# Altium footprint library BasicLib.PcbLib: 24 footprints (part 1 of 2)
Each footprint in its own frame and in the unit in brackets; x right, y up, seen from the top. Pads: shape width x height; smd on the part's side, far side on the other; paste and mask are expansions set on the pad; w line width, h text height; cw(c..) or ccw(c..) is an arc to the next point about the centre after c.
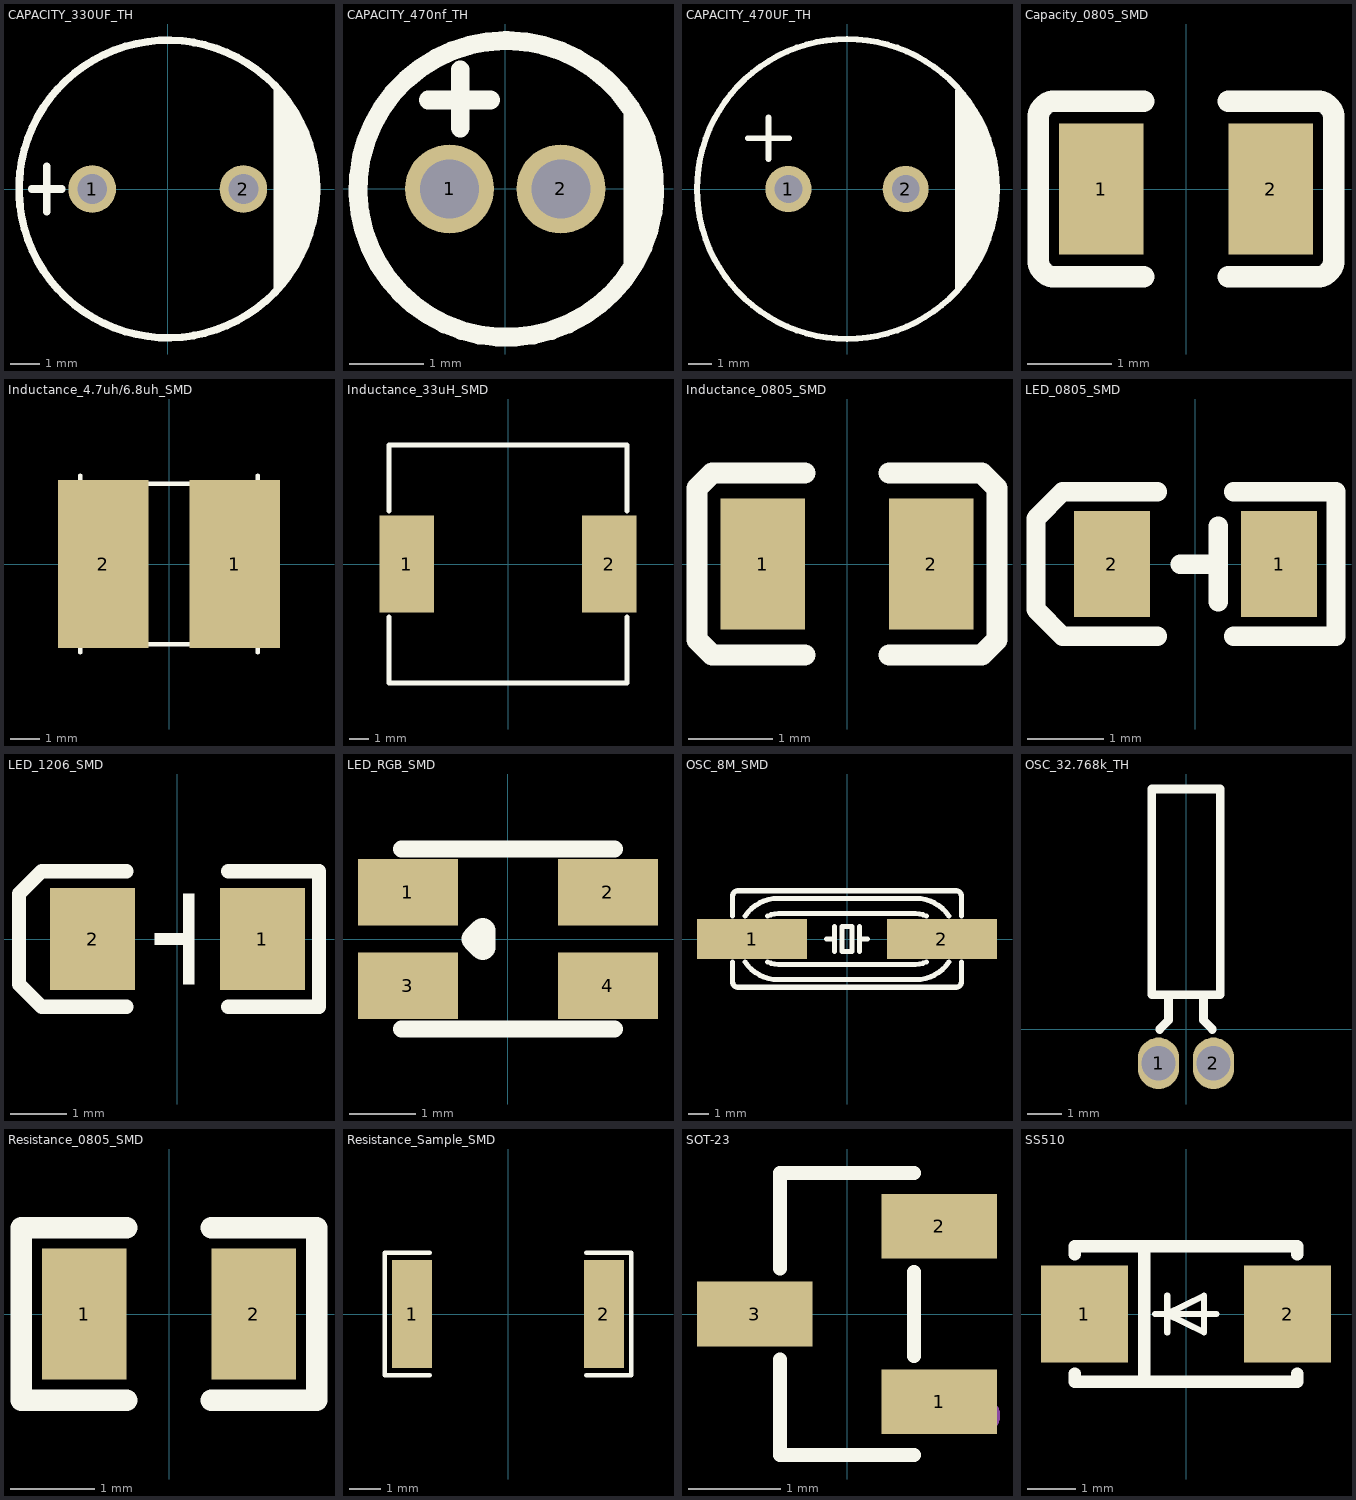
[diagram p0: the footprints below, top view; thin cyan lines are the x and y axes]

## CAPACITY_330UF_TH [mm]
pads (2):
  round 1.6 hole 1: 1(-2.54,0) 2(2.54,0)
Top Overlay:
  circle w0.254: c0,0 r4.999
  region: 3.556,3.556 3.556,-3.556 4.318,-2.54 4.826,-1.016 5.08,0.508 4.826,1.524
  lines w0.254: -4.572,0 -3.556,0 ; -4.064,-0.762 -4.064,0.762

## CAPACITY_470nf_TH [mm]
pads (2):
  round 1.2 hole 0.8: 1(-0.751,0) 2(0.751,0)
Top Overlay:
  region: 1.6,-1.2 1.71,-1.077 1.882,-0.796 1.999,-0.489 2.059,-0.165 2.059,0.165 1.999,0.489 1.882,0.796 1.71,1.077 1.6,1.2
  lines w0.254: -1.038,1.2 -0.2,1.2 ; -0.606,0.819 -0.606,1.606 ; -0.001,1.999 ccw(c0.015,-0.001) 0.032,1.999

## CAPACITY_470UF_TH [mm]
pads (2):
  round 2 hole 1.2: 1(-2.54,0) 2(2.54,0)
Top Overlay:
  circle w0.254: c-0.001,0 r6.5
  region: 4.7,4.3 4.7,-4.5 5.8,-3 6.3,-1.7 6.4,-0.5 6.3,1.5 5.7,3.2
  lines w0.254: -4.301,2.2 -2.501,2.2 ; -3.401,1.3 -3.401,3.1

## Capacity_0805_SMD [mm]
pads (2):
  rect 1x1.55 smd: 1(-1,0) 2(1,0)
Top Overlay:
  lines w0.254: -1.75,0.82 -1.75,0.8 ; -0.5,-1.04 -1.55,-1.04 cw(c-1.55,-0.84) -1.75,-0.84 -1.75,-0.8 -1.75,0.8 ; -0.5,1.04 -1.55,1.04 ccw(c-1.55,0.84) -1.75,0.84 -1.75,0.8 ; 0.5,-1.04 1.55,-1.04 ccw(c1.55,-0.84) 1.75,-0.84 1.75,-0.8 1.75,0.8 1.75,0.84 ccw(c1.55,0.84) 1.55,1.04 0.5,1.04

## Inductance_4.7uh/6.8uh_SMD [mm]
pads (2):
  rect 3.124x5.82 smd: 1(2.278,0) 2(-2.278,0)
Top Overlay:
  lines w0.152: -3.076,-3.062 -3.076,-2.776 3.076,-2.776 3.076,-3.062 ; -3.076,3.062 -3.076,2.776 3.076,2.776 3.076,3.062

## Inductance_33uH_SMD [mm]
pads (2):
  rect 2.8x5 smd: 1(-5.2,0) 2(5.2,0)
Top Overlay:
  lines w0.254: -6.1,-2.731 -6.1,-6.1 6.1,-6.1 6.1,-2.731 ; -6.1,2.731 -6.1,6.1 6.1,6.1 ; 6.1,2.731 6.1,6.096

## Inductance_0805_SMD [mm]
pads (2):
  rect 1x1.55 smd: 1(-1,0) 2(1,0)
Top Overlay:
  lines w0.254: -0.5,-1.08 -1.55,-1.08 -1.6,-1.08 -1.78,-0.9 -1.78,0.9 -1.6,1.08 -1.55,1.08 -0.5,1.08 ; 0.5,-1.08 1.55,-1.08 1.6,-1.08 1.78,-0.9 1.78,0.9 1.6,1.08 1.55,1.08 0.5,1.08

## LED_0805_SMD [mm]
pads (2):
  rect 1x1.4 smd: 1(1.1,0) 2(-1.1,0)
Top Overlay:
  lines w0.254: -0.5,-0.95 -1.75,-0.95 ; -0.5,0.95 -1.75,0.95 ; -0.2,-0.005 0.3,-0.005 ; 0.3,-0.5 0.3,0.5 ; 0.5,-0.95 1.85,-0.95 1.85,0.95 0.5,0.95 ; -1.75,-0.95 -2.1,-0.6 -2.1,0.6 -1.75,0.95 ; -1.75,-0.95 -1.75,-0.95 ; -1.75,0.95 -1.75,0.95

## LED_1206_SMD [mm]
pads (2):
  rect 1.5x1.8 smd: 1(1.5,0) 2(-1.5,0)
Top Overlay:
  region: 0.1,0.8 0.1,-0.8 0.3,-0.8 0.3,0.8
  region: -0.4,0 -0.4,0.1 0.2,0.1 0.2,-0.1 -0.4,-0.1
  lines w0.254: -0.9,-1.2 -2.4,-1.2 -2.8,-0.8 -2.8,-0.7 -2.8,0.7 -2.8,0.8 -2.4,1.2 -0.9,1.2 ; 0.9,-1.2 2.5,-1.2 2.5,1.2 0.9,1.2

## LED_RGB_SMD [mm]
pads (4):
  rect 1.5x1 smd: 1(-1.5,0.7) 2(1.5,0.7) 3(-1.5,-0.7) 4(1.5,-0.7)
Top Overlay:
  lines w0.254: -1.6,-1.35 1.6,-1.35 ; -1.6,1.35 1.6,1.35
  lines w0.381: -0.508,0 -0.381,0.127 -0.381,-0.127 -0.508,0

## OSC_8M_SMD [mm]
pads (2):
  rect 5.5x2 smd: 1(-4.75,0) 2(4.75,0)
Top Overlay:
  lines w0.254: -5.715,-1.143 -5.715,-2.159 ccw(c-5.461,-2.159) -5.461,-2.413 5.461,-2.413 ccw(c5.461,-2.159) 5.715,-2.159 5.715,-1.143 ; -5.715,1.143 -5.715,2.159 cw(c-5.461,2.159) -5.461,2.413 5.461,2.413 cw(c5.461,2.159) 5.715,2.159 5.715,1.143 ; -5.109,-1.143 ccw(c-3.429,0) -3.429,-2.032 3.429,-2.032 ccw(c3.429,0) 5.109,-1.143 ; -5.109,1.143 cw(c-3.429,0) -3.429,2.032 3.429,2.032 cw(c3.429,0) 5.109,1.143 ; -3.983,-1.143 ccw(c-3.429,0) -3.429,-1.27 3.429,-1.27 ccw(c3.429,0) 3.983,-1.143 ; -3.983,1.143 cw(c-3.429,0) -3.429,1.27 3.429,1.27 cw(c3.429,0) 3.983,1.143 ; -1.016,0 -0.635,0 ; -0.635,-0.635 -0.635,0 ; -0.635,0.635 -0.635,0 ; 0.635,-0.635 0.635,0 ; 0.635,0.635 0.635,0 ; 1.016,0 0.635,0 ; -0.254,-0.635 -0.254,0.635 0.254,0.635 0.254,-0.635 -0.254,-0.635

## OSC_32.768k_TH [mm]
pads (2):
  oval 1.2x1.5 hole 1: 1(-0.8,-1) 2(0.8,-1)
Top Overlay:
  lines w0.254: -0.762,-0.02 -0.762,0 -0.508,0.254 -0.508,0.381 -0.508,0.889 ; 0.508,0.889 0.508,0.381 0.508,0.254 0.762,0 0.762,-0.02 ; -1,1 -1,7 1,7 1,1 -1,1

## Resistance_0805_SMD [mm]
pads (2):
  rect 1x1.55 smd: 1(-1,0) 2(1,0)
Top Overlay:
  lines w0.254: -0.5,-1.02 -1.75,-1.02 -1.75,1.02 -0.5,1.02 ; 0.5,-1.02 1.75,-1.02 1.75,1.02 0.5,1.02

## Resistance_Sample_SMD [mm]
pads (2):
  rect 1.283x3.456 smd: 1(-3.066,0) 2(3.066,0)
Top Overlay:
  lines w0.152: -2.501,-1.957 -3.936,-1.957 -3.936,1.957 -2.501,1.957 ; 2.501,-1.957 3.936,-1.957 3.936,1.957 2.501,1.957
Top Paste:
  region: 2.425,-1.628 2.425,-0.688 2.525,-0.588 2.761,-0.588 2.861,-0.488 2.861,0.488 2.761,0.588 2.525,0.588 2.425,0.688 2.425,1.628 2.525,1.728 3.608,1.728 3.708,1.628 3.708,-1.628 3.608,-1.728 2.525,-1.728
  region: -2.425,-1.628 -2.425,-0.688 -2.525,-0.588 -2.761,-0.588 -2.861,-0.488 -2.861,0.488 -2.761,0.588 -2.525,0.588 -2.425,0.688 -2.425,1.628 -2.525,1.728 -3.608,1.728 -3.708,1.628 -3.708,-1.628 -3.608,-1.728 -2.525,-1.728

## SOT-23 [mm]
pads (3):
  rect 1.25x0.7 smd: 1(1,-0.95) 2(1,0.95) 3(-1,0)
Top Overlay:
  lines w0.152: -0.726,-0.495 -0.726,-1.526 0.726,-1.526 ; -0.726,0.495 -0.726,1.526 0.726,1.526 ; 0.726,-0.455 0.726,0.455
Mechanical 15:
  circle w0.2: c1.46,-1.1 r0.1

## SS510 [mm]
pads (2):
  rect 1.8x2 smd: 1(-2.1,0) 2(2.1,0)
Top Overlay:
  lines w0.127: -0.643,0 0.627,0 ; -0.389,-0.381 -0.389,0 ; -0.389,0.381 -0.389,0 ; -0.389,0 0.373,0.381 0.373,0 0.373,-0.381 -0.389,0
  lines w0.254: -2.3,-1.231 -2.3,-1.4 2.3,-1.4 2.3,-1.231 ; -2.3,1.231 -2.3,1.4 2.3,1.4 2.3,1.231 ; -0.864,-1.4 -0.864,1.4